# Altium footprint library CANSAT_ExtraLib.PcbLib: 8 footprints
Each footprint in its own frame and in the unit in brackets; x right, y up, seen from the top. Pads: shape width x height; smd on the part's side, far side on the other; paste and mask are expansions set on the pad; w line width, h text height; cw(c..) or ccw(c..) is an arc to the next point about the centre after c.
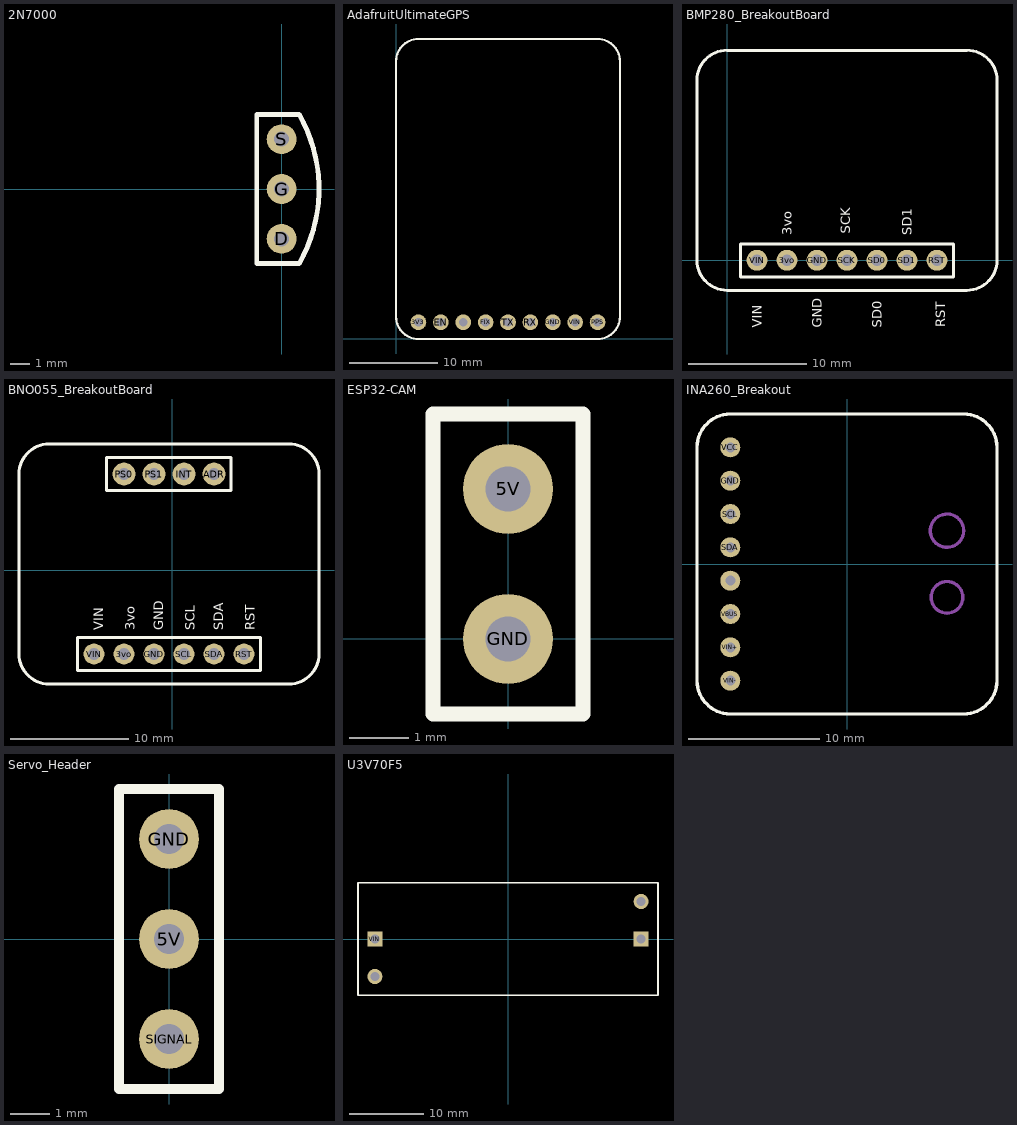
[diagram p0: the footprints below, top view; thin cyan lines are the x and y axes]

## 2N7000 [mil]
pads (3):
  round 60 hole 30: D(0,-100) G(0,0) S(0,100)
Top Overlay:
  lines w10: -50,-150 -50,150 35,150 cw(c-226.25,0) 35,-150 -50,-150

## AdafruitUltimateGPS [mil]
pads (9):
  round 70 hole 39.36 paste-99999 mask+4: 3V3(100,75) EN(200,75) FIX(400,75) GND(700,75) PPS(900,75) RX(600,75) TX(500,75) VBAT(300,75) VIN(800,75)
Top Overlay:
  lines w10: 0,100 ccw(c100,100) 100,0 900,0 ccw(c900,100) 1000,100 1000,1240 ccw(c900,1240) 900,1340 100,1340 ccw(c100,1240) 0,1240 0,100
Mechanical 1:
  text "Adafruit" at 310,1010 h60
  text "Ultimate GPS" at 170,860 h60
  text "3V3" at 130,150 h60
  text "EN" at 235,150 h60
  text "VBAT" at 335,150 h60
  text "FIX" at 430,150 h60
  text "TX" at 535,150 h60
  text "RX" at 630,155 h60
  text "GND" at 730,155 h60
  text "VIN" at 835,155 h60
  text "PPS" at 935,150 h60

## BMP280_BreakoutBoard [mil]
pads (7):
  round 70 hole 39.36 paste-99999 mask+4: 3vo(200,0) GND(300,0) RST(700,0) SCK(400,0) SD0(500,0) SD1(600,0) VIN(100,0)
Top Overlay:
  lines w10: -100,0 ccw(c0,0) 0,-100 800,-100 ccw(c800,0) 900,0 900,600 ccw(c800,600) 800,700 0,700 ccw(c0,600) -100,600 -100,0 ; 45,-55 45,55 755,55 755,-55 45,-55
  text "SD1" at 616.06,83.94 h31.5
  text "VIN" at 115.75,-225 h31.5
  text "SD0" at 515.75,-225 h31.5
  text "SCK" at 411.06,88.94 h31.5
  text "3vo" at 216.06,83.94 h31.5
  text "GND" at 315.75,-225 h31.5
  text "RST" at 727.24,-224.01 h31.5
Mechanical 1:

## BNO055_BreakoutBoard [mil]
pads (10):
  round 70 hole 39.36 paste-99999 mask+4: 3vo(-160,-280) GND(-60,-280) RST(240,-280) SCL(40,-280) SDA(140,-280) VIN(-260,-280)
  round 76 hole 39.36 paste-99999 mask+4: ADR(140,320) INT(40,320) PS0(-160,320) PS1(-60,320)
Top Overlay:
  lines w10: -510,-280 ccw(c-410,-280) -410,-380 390,-380 ccw(c390,-280) 490,-280 490,320 ccw(c390,320) 390,420 -410,420 ccw(c-410,320) -510,320 -510,-280 ; -315,-335 295,-335 295,-225 -315,-225 -315,-335 ; -217.5,265 197.5,265 197.5,375 -217.5,375 -217.5,265
  text "VIN" at -229.25,-200 h31.5
  text "GND" at -29.25,-200 h31.5
  text "3vo" at -124.25,-200 h31.5
  text "SCL" at 75.75,-200 h31.5
  text "SDA" at 170.75,-200 h31.5
  text "RST" at 275.75,-200 h31.5
Mechanical 1:

## ESP32-CAM [mil]
pads (2):
  round 60 hole 30: 5V(0,100) GND(0,0)
Top Overlay:
  lines w10: -50,-50 50,-50 50,150 -50,150 -50,-50
Mechanical 1:
  text "GND" at 70,-40 h60
  text "5V" at 65,85 h60

## INA260_Breakout [mil] "Voltage Sensor"
pads (8):
  round 60 hole 30: ALERT(-350,-50) GND(-350,250) SCL(-350,150) SDA(-350,50) VBUS(-350,-150) VCC(-350,350) VIN+(-350,-250) VIN-(-350,-350)
Top Overlay:
  lines w10: -450,-350 ccw(c-350,-350) -350,-450 350,-450 ccw(c350,-350) 450,-350 450,350 ccw(c350,350) 350,450 -350,450 ccw(c-350,350) -450,350 -450,-350
Mechanical 1:
  circle w10: c300,100 r50
  circle w10: c300,-100 r47.43

## Servo_Header [mil]
pads (3):
  round 60 hole 30: 5V(0,0) GND(0,100) SIGNAL(0,-100)
Top Overlay:
  lines w10: -50,-150 50,-150 50,150 -50,150 -50,-150
Mechanical 1:
  text "SIGNAL" at 65,-135 h60
  text "5V" at 65,-30 h60
  text "GND" at 65,70 h60

## U3V70F5 [mil] "Boost Regulator: 5V"
pads (4):
  round 80 hole 47: GND_IN(-710,-200) VOUT_5V(710,200)
  rect 80x80 hole 47: GND_OUT(710,0) VIN(-710,0)
Top Overlay:
  lines w10: -800,-300 800,-300 800,300 -800,300 -800,-300
Mechanical 1:
  text "GND" at -585,-225 h60
  text "VIN" at -585,-30 h60
  text "GND" at 445,-25 h60
  text "5V" at 520,165 h60